# Altium footprint library PcbLib1.PcbLib: 21 footprints (part 1 of 2)
Each footprint in its own frame and in the unit in brackets; x right, y up, seen from the top. Pads: shape width x height; smd on the part's side, far side on the other; paste and mask are expansions set on the pad; w line width, h text height; cw(c..) or ccw(c..) is an arc to the next point about the centre after c.
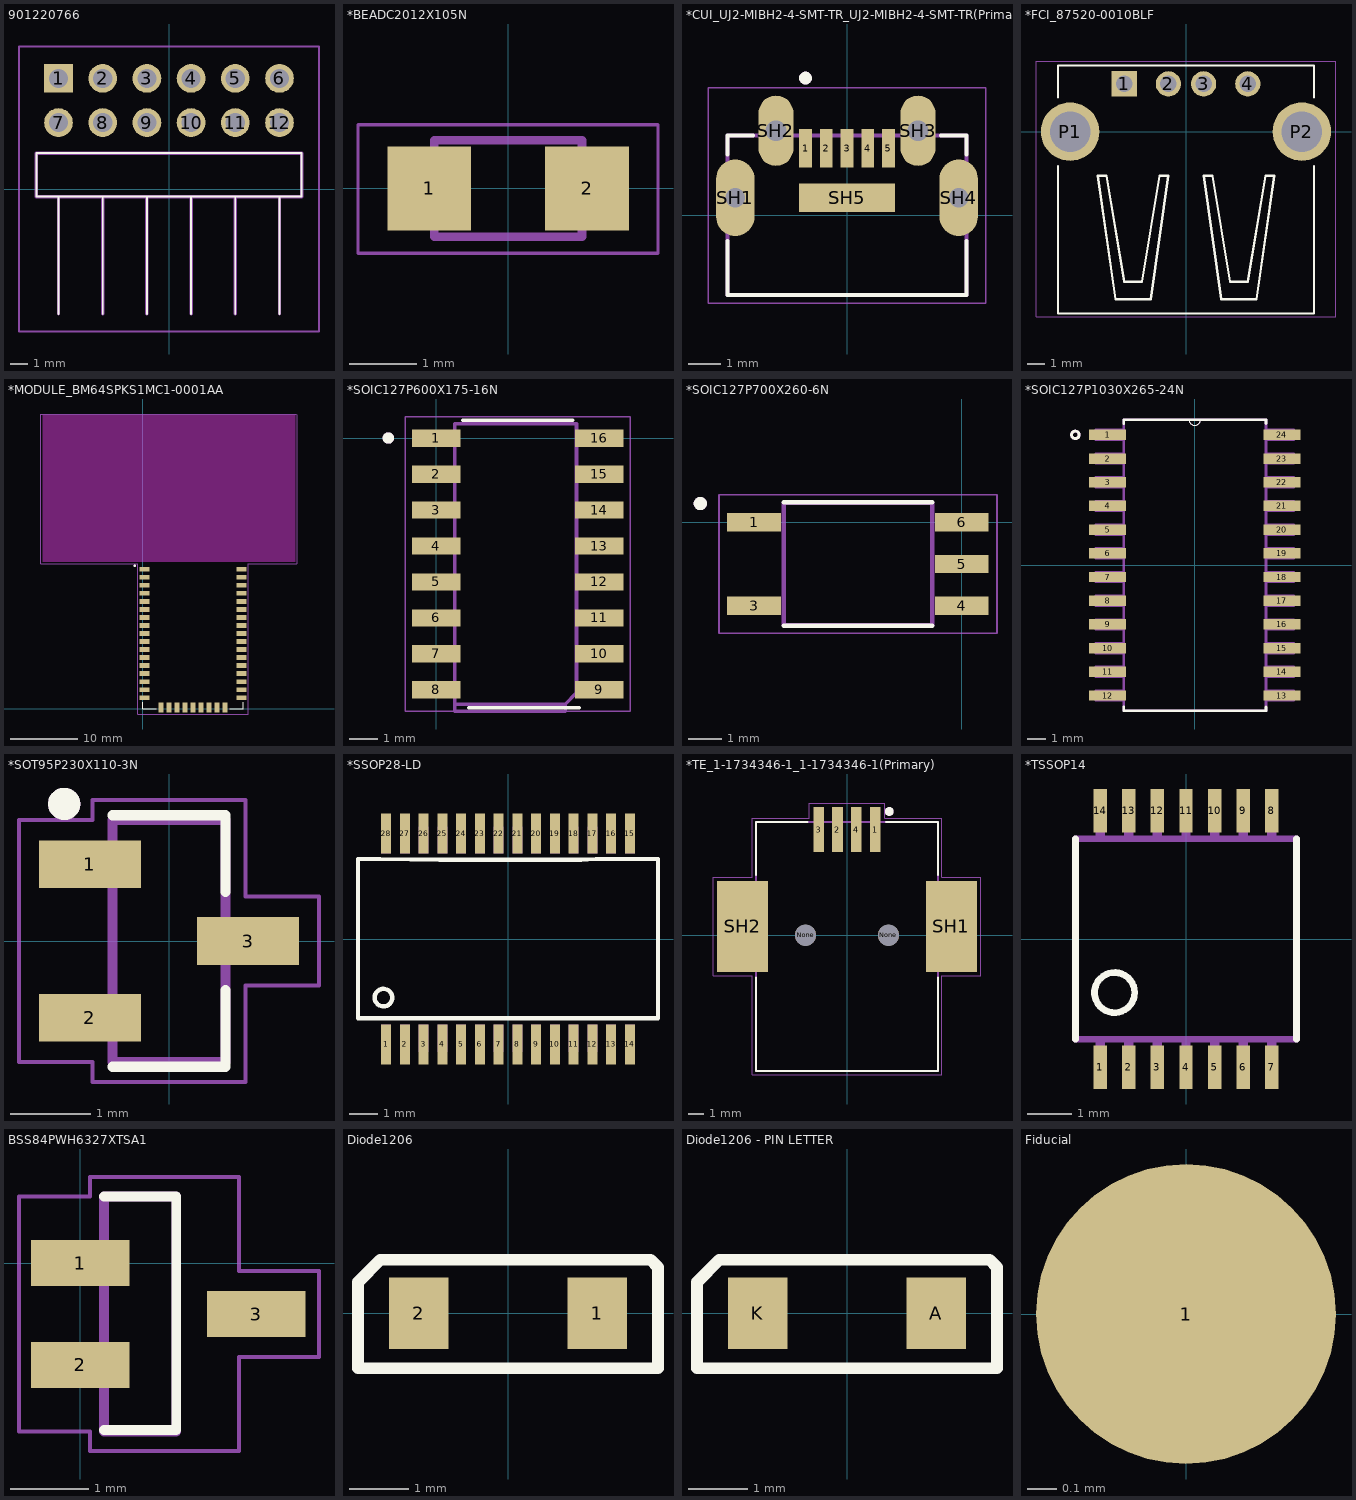
[diagram p0: the footprints below, top view; thin cyan lines are the x and y axes]

## 901220766 [mm]
pads (12):
  rect 1.65x1.65 hole 1.1: 1(-6.35,6.357)
  round 1.65 hole 1.1: 2(-3.81,6.357) 3(-1.27,6.357) 4(1.27,6.357) 5(3.81,6.357) 6(6.35,6.357) 7(-6.35,3.817) 8(-3.81,3.817) 9(-1.27,3.817) 10(1.27,3.817) 11(3.81,3.817) 12(6.35,3.817)
Top Overlay:
  lines w0.1: -6.35,-7.182 -6.35,-0.433 ; -3.81,-7.182 -3.81,-0.433 ; -1.27,-7.182 -1.27,-0.433 ; 1.27,-7.182 1.27,-0.433 ; 3.81,-7.182 3.81,-0.433 ; 6.35,-7.182 6.35,-0.433 ; -7.62,-0.433 7.62,-0.433 7.62,2.067 -7.62,2.067 -7.62,-0.433
Mechanical 13:
  lines w0.2: -6.35,-7.182 -6.35,-0.433 ; -3.81,-7.182 -3.81,-0.433 ; -1.27,-7.182 -1.27,-0.433 ; 1.27,-7.182 1.27,-0.433 ; 3.81,-7.182 3.81,-0.433 ; 6.35,-7.182 6.35,-0.433 ; -7.62,-0.433 7.62,-0.433 7.62,2.067 -7.62,2.067 -7.62,-0.433
Mechanical 15:
  lines w0.1: -8.62,-8.182 8.62,-8.182 8.62,8.183 -8.62,8.183 -8.62,-8.182
3D body "90122-0766.stp": height 3.08, standoff -5.97, extent -7.62,-7.702 7.62,6.147

## *BEADC2012X105N [mm]
pads (2):
  rect 1.25x1.25 smd: 1(-1.175,0) 2(1.175,0)
Mechanical 4:
  lines w0.127: -1.1,-0.72 -1.1,0.72 ; -1.1,-0.72 1.1,-0.72 ; -1.1,-0.72 -1.1,0.72 ; -1.1,-0.72 1.1,-0.72 ; -1.1,0.72 1.1,0.72 ; -1.1,0.72 1.1,0.72 ; 1.1,-0.72 1.1,0.72 ; 1.1,-0.72 1.1,0.72
Mechanical 16:
  lines w0.05: -2.236,-0.964 1.18,-0.964 2.232,-0.964 2.232,0.948 -2.236,0.948 -2.236,-0.964

## *CUI_UJ2-MIBH2-4-SMT-TR_UJ2-MIBH2-4-SMT-TR(Primary) [mm]
pads (10):
  rect 0.4x1.2 smd: 1(-1.3,2.1) 2(-0.65,2.1) 3(0,2.1) 4(0.65,2.1) 5(1.3,2.1)
  oval 1.2x2.4 hole 0.6: SH1(-3.5,0.55) SH4(3.5,0.55)
  oval 1.1x2.2 hole 0.65: SH2(-2.225,2.65) SH3(2.225,2.65)
  rect 3x0.9 smd: SH5(0,0.55)
Top Overlay:
  circle w0.2: c-1.3,4.3 r0.1
  lines w0.127: -3.75,-0.8 -3.75,-2.5 3.75,-2.5 3.75,-0.8 ; -3.75,1.9 -3.75,2.5 -2.95,2.5 ; 2.95,2.5 3.75,2.5 3.75,1.9
Mechanical 1:
  lines w0: -3.8,0.15 ccw(c-3.5,0.15) -3.5,-0.15 ccw(c-3.5,0.15) -3.2,0.15 -3.2,0.95 ccw(c-3.5,0.95) -3.5,1.25 ccw(c-3.5,0.95) -3.8,0.95 -3.8,0.15 ; -2.55,2.575 ccw(c-2.225,2.575) -2.225,2.25 ccw(c-2.225,2.575) -1.9,2.575 -1.9,2.725 ccw(c-2.225,2.725) -2.225,3.05 ccw(c-2.225,2.725) -2.55,2.725 -2.55,2.575 ; 1.9,2.575 ccw(c2.225,2.575) 2.225,2.25 ccw(c2.225,2.575) 2.55,2.575 2.55,2.725 ccw(c2.225,2.725) 2.225,3.05 ccw(c2.225,2.725) 1.9,2.725 1.9,2.575 ; 3.2,0.15 ccw(c3.5,0.15) 3.5,-0.15 ccw(c3.5,0.15) 3.8,0.15 3.8,0.95 ccw(c3.5,0.95) 3.5,1.25 ccw(c3.5,0.95) 3.2,0.95 3.2,0.15
Mechanical 4:
  circle w0.2: c-1.3,4.3 r0.1
  circle w0.2: c-1.3,4.3 r0.1
  lines w0.127: -3.75,-2.5 3.75,-2.5 ; -3.75,-2.5 -3.75,2.5 ; -3.75,-2.5 3.75,-2.5 ; -3.75,-2.5 -3.75,2.5 ; -3.75,2.5 3.75,2.5 ; -3.75,2.5 3.75,2.5 ; 3.75,-2.5 3.75,2.5 ; 3.75,-2.5 3.75,2.5
Mechanical 16:
  lines w0.05: -4.35,-2.75 4.35,-2.75 4.35,4 -4.35,4 -4.35,-2.75

## *FCI_87520-0010BLF [mm]
pads (6):
  rect 1.428x1.428 hole 0.92: 1(-3.5,2.71)
  round 1.428 hole 0.92: 2(-1,2.71) 3(1,2.71) 4(3.5,2.71)
  round 3.316 hole 2.3: P1(-6.57,0) P2(6.57,0)
Top Overlay:
  lines w0.127: -7.25,-1.95 -7.25,-10.3 7.25,-10.3 7.25,-1.95 ; -7.25,1.95 -7.25,3.75 7.25,3.75 7.25,1.95 ; -5,-2.5 -4,-9.5 -2,-9.5 -1,-2.5 -1.5,-2.5 -2.5,-8.5 -3.5,-8.5 -4.5,-2.5 -5,-2.5 ; 1,-2.5 2,-9.5 4,-9.5 5,-2.5 4.5,-2.5 3.5,-8.5 2.5,-8.5 1.5,-2.5 1,-2.5
Mechanical 16:
  lines w0.05: -8.5,-10.5 8.5,-10.5 8.5,4 -8.5,4 -8.5,-10.5

## *MODULE_BM64SPKS1MC1-0001AA [mm]
pads (43):
  rect 1.5x0.7 smd: 1(0.25,20.9) 2(0.25,19.7) 3(0.25,18.5) 4(0.25,17.3) 5(0.25,16.1) 6(0.25,14.9) 7(0.25,13.7) 8(0.25,12.5) 9(0.25,11.3) 10(0.25,10.1) 11(0.25,8.9) 12(0.25,7.7) 13(0.25,6.5) 14(0.25,5.3) 15(0.25,4.1) 16(0.25,2.9) 17(0.25,1.7) 27(14.75,1.7) 28(14.75,2.9) 29(14.75,4.1) 30(14.75,5.3) 31(14.75,6.5) 32(14.75,7.7) 33(14.75,8.9) 34(14.75,10.1) 35(14.75,11.3) 36(14.75,12.5) 37(14.75,13.7) 38(14.75,14.9) 39(14.75,16.1) 40(14.75,17.3) 41(14.75,18.5) 42(14.75,19.7) 43(14.75,20.9)
  rect 0.76x1.5 smd: 18(2.7,0.25) 19(3.9,0.25) 20(5.1,0.25) 21(6.3,0.25) 22(7.5,0.25) 23(8.7,0.25) 24(9.9,0.25) 25(11.1,0.25) 26(12.3,0.25)
Top Overlay:
  circle w0.2: c-1.2,21.45 r0.1
  lines w0.127: 0,1 0,0 2,0 ; 13,0 15,0 15,1
Keep-Out Layer:
  region: -15,44 22.8,44 22.8,22 12.827,22 9.271,22 -15,22
Mechanical 4:
  circle w0.2: c-1.2,21.45 r0.1
  circle w0.2: c-1.2,21.45 r0.1
Mechanical 16:
  lines w0.05: -15.25,21.75 -0.75,21.75 -0.75,-0.75 15.75,-0.75 15.75,21.75 16.075,21.75 23.025,21.75 23.075,21.8 23.075,44.05 22.975,44.15 16.075,44.15 -15.25,44.15 -15.25,21.75

## *SOIC127P600X175-16N [mm]
pads (16):
  rect 1.71x0.61 smd: 1(0,0) 2(0,-1.27) 3(0,-2.54) 4(0,-3.81) 5(0,-5.08) 6(0,-6.35) 7(0,-7.62) 8(0,-8.89) 9(5.75,-8.89) 10(5.75,-7.62) 11(5.75,-6.35) 12(5.75,-5.08) 13(5.75,-3.81) 14(5.75,-2.54) 15(5.75,-1.27) 16(5.75,0)
Top Overlay:
  circle w0.2: c-1.695,0.005 r0.1
  lines w0.127: 0.926,0.635 4.826,0.635 ; 1.143,-9.525 5.043,-9.525
Mechanical 4:
  circle w0.2: c-1.695,0.005 r0.1
  circle w0.2: c-1.695,0.005 r0.1
  lines w0.127: 0.655,-9.395 0.655,0.505 4.953,0.505 4.953,-8.997 4.555,-9.395 ; 0.655,-9.395 4.555,-9.395 ; 0.655,-9.395 0.655,-9.652 4.555,-9.652 4.555,-9.395 ; 0.655,-9.395 4.555,-9.395
Mechanical 16:
  lines w0.05: -1.105,-9.645 6.858,-9.645 6.858,0.755 -1.105,0.755 -1.105,-9.645

## *SOIC127P700X260-6N [mm]
pads (5):
  rect 1.63x0.56 smd: 1(-6.29,0) 3(-6.29,-2.54) 4(0,-2.54) 5(0,-1.27) 6(0,0)
Top Overlay:
  circle w0.2: c-7.92,0.56 r0.1
  lines w0.127: -5.395,-3.14 -0.895,-3.14 ; -5.395,0.6 -0.895,0.6
Mechanical 4:
  circle w0.2: c-7.92,0.56 r0.1
  circle w0.2: c-7.92,0.56 r0.1
  lines w0.127: -5.395,-3.12 -0.895,-3.12 ; -5.395,-3.12 -5.395,0.58 ; -5.395,-3.12 -0.895,-3.12 ; -5.395,-3.12 -5.395,0.58 ; -5.395,0.58 -0.895,0.58 ; -5.395,0.58 -0.895,0.58 ; -0.895,-3.12 -0.895,0.58 ; -0.895,-3.12 -0.895,0.58
Mechanical 16:
  lines w0.05: -7.355,-3.37 1.065,-3.37 1.065,0.83 -7.355,0.83 -7.355,-3.37

## *SOIC127P1030X265-24N [mil]
pads (24):
  rect 78x22 smd: 1(-184,275) 2(-184,225) 3(-184,175) 4(-184,125) 5(-184,75) 6(-184,25) 7(-184,-25) 8(-184,-75) 9(-184,-125) 10(-184,-175) 11(-184,-225) 12(-184,-275) 13(184,-275) 14(184,-225) 15(184,-175) 16(184,-125) 17(184,-75) 18(184,-25) 19(184,25) 20(184,75) 21(184,125) 22(184,175) 23(184,225) 24(184,275)
Top Overlay:
  lines w0: -12,307 ccw(c0,307) 12,307
  lines w6: -150,-299 -150,-307 150,-307 150,-299 ; -150,299 -150,307 -12,307 12,307 150,307 150,299 ; -260,275 ccw(c-252,275) -244,275 ccw(c-252,275) -260,275
Mechanical 4:
  drawing of 210 lines, arcs and shapes, not listed
3D body "Package, SOIC-24, 7.5mm.STEP": height 90.55, standoff 0, extent -203.74,-303.14 201.77,303.16

## *SOT95P230X110-3N [mm]
pads (3):
  rect 1.26x0.59 smd: 1(-0.98,0.95) 2(-0.98,-0.95) 3(0.98,0)
Top Overlay:
  circle w0.2: c-1.3,1.7 r0.1
  lines w0.127: -0.7,-1.559 0.7,-1.559 0.7,-0.609 ; -0.7,1.559 0.7,1.559 0.7,0.609
Mechanical 4:
  circle w0.2: c-1.3,1.7 r0.1
  circle w0.2: c-1.3,1.7 r0.1
  lines w0.127: -0.7,-1.5 0.7,-1.5 ; -0.7,-1.5 -0.7,1.5 ; -0.7,-1.5 0.7,-1.5 ; -0.7,-1.5 -0.7,1.5 ; -0.7,1.5 0.7,1.5 ; -0.7,1.5 0.7,1.5 ; 0.7,-1.5 0.7,1.5 ; 0.7,-1.5 0.7,1.5
Mechanical 16:
  lines w0.05: -1.86,-1.5 -0.95,-1.5 -0.95,-1.75 0.95,-1.75 0.95,-0.55 1.86,-0.55 1.86,0.55 0.95,0.55 0.95,1.75 -0.95,1.75 -0.95,1.5 -1.86,1.5 -1.86,-1.5

## *SSOP28-LD [mm]
pads (28):
  rect 0.348x1.397 smd: 1(-4.225,-3.656) 2(-3.575,-3.656) 3(-2.925,-3.656) 4(-2.275,-3.656) 5(-1.625,-3.656) 6(-0.975,-3.656) 7(-0.325,-3.656) 8(0.325,-3.656) 9(0.975,-3.656) 10(1.625,-3.656) 11(2.275,-3.656) 12(2.925,-3.656) 13(3.575,-3.656) 14(4.225,-3.656) 15(4.225,3.656) 16(3.575,3.656) 17(2.925,3.656) 18(2.275,3.656) 19(1.625,3.656) 20(0.975,3.656) 21(0.325,3.656) 22(-0.325,3.656) 23(-0.975,3.656) 24(-1.625,3.656) 25(-2.275,3.656) 26(-2.925,3.656) 27(-3.575,3.656) 28(-4.225,3.656)
Top Overlay:
  circle w0.152: c-4.318,-2.032 r0.305
  lines w0.152: -5.2,-2.75 5.2,-2.75 5.2,2.775 3.611,2.775 3.036,2.775 2.529,2.75 -2.379,2.75 -4.425,2.775 -4.696,2.775 -5.2,2.775 -5.2,-2.75
Mechanical 4:
  drawing of 56 lines, arcs and shapes, not listed

## *TE_1-1734346-1_1-1734346-1(Primary) [mm]
pads (8):
  rect 0.7x3 smd: 1(1.87,7) 2(-0.63,7) 3(-1.88,7) 4(0.62,7)
  round 1.4 hole 1.4 unplated: None(-2.75,0) None(2.75,0)
  rect 3.4x6.04 smd: SH1(6.92,0.58) SH2(-6.92,0.58)
Top Overlay:
  circle w0.3: c2.8,8.2 r0.141
  lines w0.127: -6.02,-2.8 -6.02,-9 6.02,-9 6.02,-2.8 ; -6.02,4 -6.02,7.5 -2.6,7.5 ; 2.58,7.5 6.02,7.5 6.02,4
Mechanical 4:
  circle w0.3: c2.8,8.2 r0.141
  circle w0.3: c2.8,8.2 r0.141
  lines w0.127: -6.02,-9 -6.02,7.5 ; -6.02,-9 6.02,-9 ; -6.02,-9 -6.02,7.5 ; -6.02,-9 6.02,-9 ; -6.02,7.5 6.02,7.5 ; -6.02,7.5 6.02,7.5 ; 6.02,-9 6.02,7.5 ; 6.02,-9 6.02,7.5
Mechanical 16:
  lines w0.05: -8.87,-2.69 -8.87,3.85 -6.27,3.85 -6.27,7.75 -2.5,7.75 -2.5,8.75 2.5,8.75 2.5,7.75 6.27,7.75 6.27,3.85 8.87,3.85 8.87,-2.69 6.27,-2.69 6.27,-9.25 -6.27,-9.25 -6.27,-2.69 -8.87,-2.69
3D body "c-1-1734346-1-c-3d.stp": height 11.2, standoff -1.22, extent -8.35,-8.825 8.15,8.275

## *TSSOP14 [mil]
pads (14):
  rect 12x39 smd: 1(-76.77,-114.87) 2(-51.18,-114.87) 3(-25.59,-114.87) 4(0,-114.87) 5(25.59,-114.87) 6(51.18,-114.87) 7(76.77,-114.87) 8(76.77,114.87) 9(51.18,114.87) 10(25.59,114.87) 11(0,114.87) 12(-25.59,114.87) 13(-51.18,114.87) 14(-76.77,114.87)
Top Overlay:
  circle w6: c-64,-48 r18
  lines w6: -99,-89.87 -99,89.87 ; 99,-89.87 99,89.87
Mechanical 4:
  region: -80.77,122.87 -72.77,122.87 -72.77,89.87 -80.77,89.87
  region: -55.18,122.87 -47.18,122.87 -47.18,89.87 -55.18,89.87
  region: -29.59,122.87 -21.59,122.87 -21.59,89.87 -29.59,89.87
  region: -4,122.87 4,122.87 4,89.87 -4,89.87
  region: 21.59,122.87 29.59,122.87 29.59,89.87 21.59,89.87
  region: 47.18,122.87 55.18,122.87 55.18,89.87 47.18,89.87
  region: 72.77,122.87 80.77,122.87 80.77,89.87 72.77,89.87
  region: 72.77,-89.87 80.77,-89.87 80.77,-122.87 72.77,-122.87
  region: 47.18,-89.87 55.18,-89.87 55.18,-122.87 47.18,-122.87
  region: 21.59,-89.87 29.59,-89.87 29.59,-122.87 21.59,-122.87
  region: -4,-89.87 4,-89.87 4,-122.87 -4,-122.87
  region: -29.59,-89.87 -21.59,-89.87 -21.59,-122.87 -29.59,-122.87
  region: -55.18,-89.87 -47.18,-89.87 -47.18,-122.87 -55.18,-122.87
  region: -80.77,-89.87 -72.77,-89.87 -72.77,-122.87 -80.77,-122.87
  region: -80.77,122.87 -72.77,122.87 -72.77,89.87 -80.77,89.87
  region: -55.18,122.87 -47.18,122.87 -47.18,89.87 -55.18,89.87
  region: -29.59,122.87 -21.59,122.87 -21.59,89.87 -29.59,89.87
  region: -4,122.87 4,122.87 4,89.87 -4,89.87
  region: 21.59,122.87 29.59,122.87 29.59,89.87 21.59,89.87
  region: 47.18,122.87 55.18,122.87 55.18,89.87 47.18,89.87
  region: 72.77,122.87 80.77,122.87 80.77,89.87 72.77,89.87
  region: 72.77,-89.87 80.77,-89.87 80.77,-122.87 72.77,-122.87
  region: 47.18,-89.87 55.18,-89.87 55.18,-122.87 47.18,-122.87
  region: 21.59,-89.87 29.59,-89.87 29.59,-122.87 21.59,-122.87
  region: -4,-89.87 4,-89.87 4,-122.87 -4,-122.87
  region: -29.59,-89.87 -21.59,-89.87 -21.59,-122.87 -29.59,-122.87
  region: -55.18,-89.87 -47.18,-89.87 -47.18,-122.87 -55.18,-122.87
  region: -80.77,-89.87 -72.77,-89.87 -72.77,-122.87 -80.77,-122.87
  lines w6: -99,-89.87 99,-89.87 -99,-89.87 ; -99,89.87 99,89.87 -99,89.87

## BSS84PWH6327XTSA1 [mm]
pads (3):
  rect 1.26x0.59 smd: 1(0,0) 2(0,-1.3) 3(2.25,-0.65)
Top Overlay:
  lines w0.127: 0.3,-2.134 1.225,-2.134 1.225,-1.025 1.225,0.85 0.3,0.85
Mechanical 4:
  lines w0.127: 0.3,-2.15 0.3,0.85 ; 0.3,-2.15 1.225,-2.15 ; 0.3,-2.15 0.3,0.85 ; 0.3,-2.15 1.225,-2.15 ; 0.3,0.85 1.225,0.85 ; 0.3,0.85 1.225,0.85 ; 1.225,-2.15 1.225,0.85 ; 1.225,-2.15 1.225,0.85
Mechanical 16:
  lines w0.05: -0.785,-2.15 -0.785,0.85 0.125,0.85 0.125,1.1 2.025,1.1 2.025,-0.1 3.05,-0.1 3.05,-0.55 3.05,-1.2 2.025,-1.2 2.025,-2.4 0.125,-2.4 0.125,-2.15 -0.785,-2.15

## Diode1206 [mm]
pads (2):
  rect 1x1.2 smd: 1(1.5,0) 2(-1.5,0)
Top Overlay:
  lines w0.2: -2.525,-0.925 2.525,-0.925 2.525,0.775 2.4,0.9 -2.15,0.9 -2.525,0.525 -2.525,-0.725 -2.525,-0.925

## Diode1206 - PIN LETTER [mm]
pads (2):
  rect 1x1.2 smd: A(1.5,0) K(-1.5,0)
Top Overlay:
  lines w0.2: -2.525,-0.925 2.525,-0.925 2.525,0.775 2.4,0.9 -2.15,0.9 -2.525,0.525 -2.525,-0.725 -2.525,-0.925

## Fiducial [mil] "40mil Fiducial"
pads (1):
  round 40 smd paste-40 mask+40: 1(0,0)